# Altium schematic symbol library mechanical.SchLib: 2 symbols
Pins are listed as number, name and electrical type; pins without a type are passive.

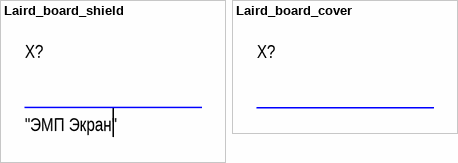
[diagram p0: symbols Laird_board_shield to Laird_board_сover]

## Laird_board_shield
designator X?  CommentText: "ЭМП Экран"
Manufacturer: Laird Performance Materials; ValueManufacturerPartNumber: RF Shields, 7.00mm, 29.36mm, 18.50mm; PartNumber: BMI-S-209-F; TypeEMI: RF Shields; HelpURL: https://www.digikey.com/en/products/detail/laird-technologies-emi/BMI-S-209-F/3662029?s=N4IgTCBcDaIEIFkCSBaAyisAGAnCgYiALoC%2BQA; Height: 7.00mm; Length: 29.36mm; Width: 18.50mm
footprint LAIRD_BMI-S-202-F (Frame of Standard Surface Mount Shield (Two Piece), External Dimensions 16.5 x 16.5mm)
footprint LAIRD_BMI-S-203-F (Frame of Standard Surface Mount Shield (Two Piece), External Dimensions 26.21 x 26.21mm)
footprint LAIRD_BMI-S-205-F (Frame of Standard Surface Mount Shield (Two Piece), External Dimensions 25.4 x 38.1mm)
footprint LAIRD_BMI-S-207-F (Frame of Standard Surface Mount Shield (Two Piece), External Dimensions 44.37 x 44.37mm)
footprint LAIRD_BMI-S-210-F (Frame of Standard Surface Mount Shield (Two Piece), External Dimensions 44 x 30.5mm)
footprint LAIRD_BMI-S-209-F (Frame of Standard Surface Mount Shield (Two Piece), External Dimensions 29.36 x 18.50mm)
pins: 0

## Laird_board_сover
designator X?
Manufacturer: Laird Performance Materials; ValueManufacturerPartNumber: RF Shields Cover, 7.00mm, 29.36mm, 18.50mm; PartNumber: BMI-S-209-С; TypeEMI: RF Shields Cover; HelpURL: https://www.digikey.com/en/products/detail/laird-technologies-emi/BMI-S-209-F/3662029?s=N4IgTCBcDaIEIFkCSBaAyisAGAnCgYiALoC%2BQA; Height: 7.00mm; Length: 29.36mm; Width: 18.50mm
footprint LAIRD_BMI-S-202-C (Cover for Frame of Standard Surface Mount Shield (Two Piece), External Dimensions 16.5 x 16.5mm)
footprint LAIRD_BMI-S-203-C (Cover for Frame of Standard Surface Mount Shield (Two Piece), External Dimensions 26.67 x 26.67mm)
footprint LAIRD_BMI-S-205-C (Cover for Frame of Standard Surface Mount Shield (Two Piece), External Dimensions 25.86 x 38.56mm)
footprint LAIRD_BMI-S-207-C (Cover for Frame of Standard Surface Mount Shield (Two Piece), External Dimensions 44.83 x 44.83mm)
footprint LAIRD_BMI-S-210-C (Cover for Frame of Standard Surface Mount Shield (Two Piece), External Dimensions 44.6 x 31.1mm)
footprint LAIRD_BMI-S-209-C (Cover for Frame of Standard Surface Mount Shield (Two Piece), External Dimensions 29.96 x 19.10mm)